# Altium footprint library TI Amplifiers and Linear Operational Amplifier High Speed.PcbLib: 83 footprints (part 2 of 6)
Each footprint in its own frame and in the unit in brackets; x right, y up, seen from the top. Pads: shape width x height; smd on the part's side, far side on the other; paste and mask are expansions set on the pad; w line width, h text height; cw(c..) or ccw(c..) is an arc to the next point about the centre after c.
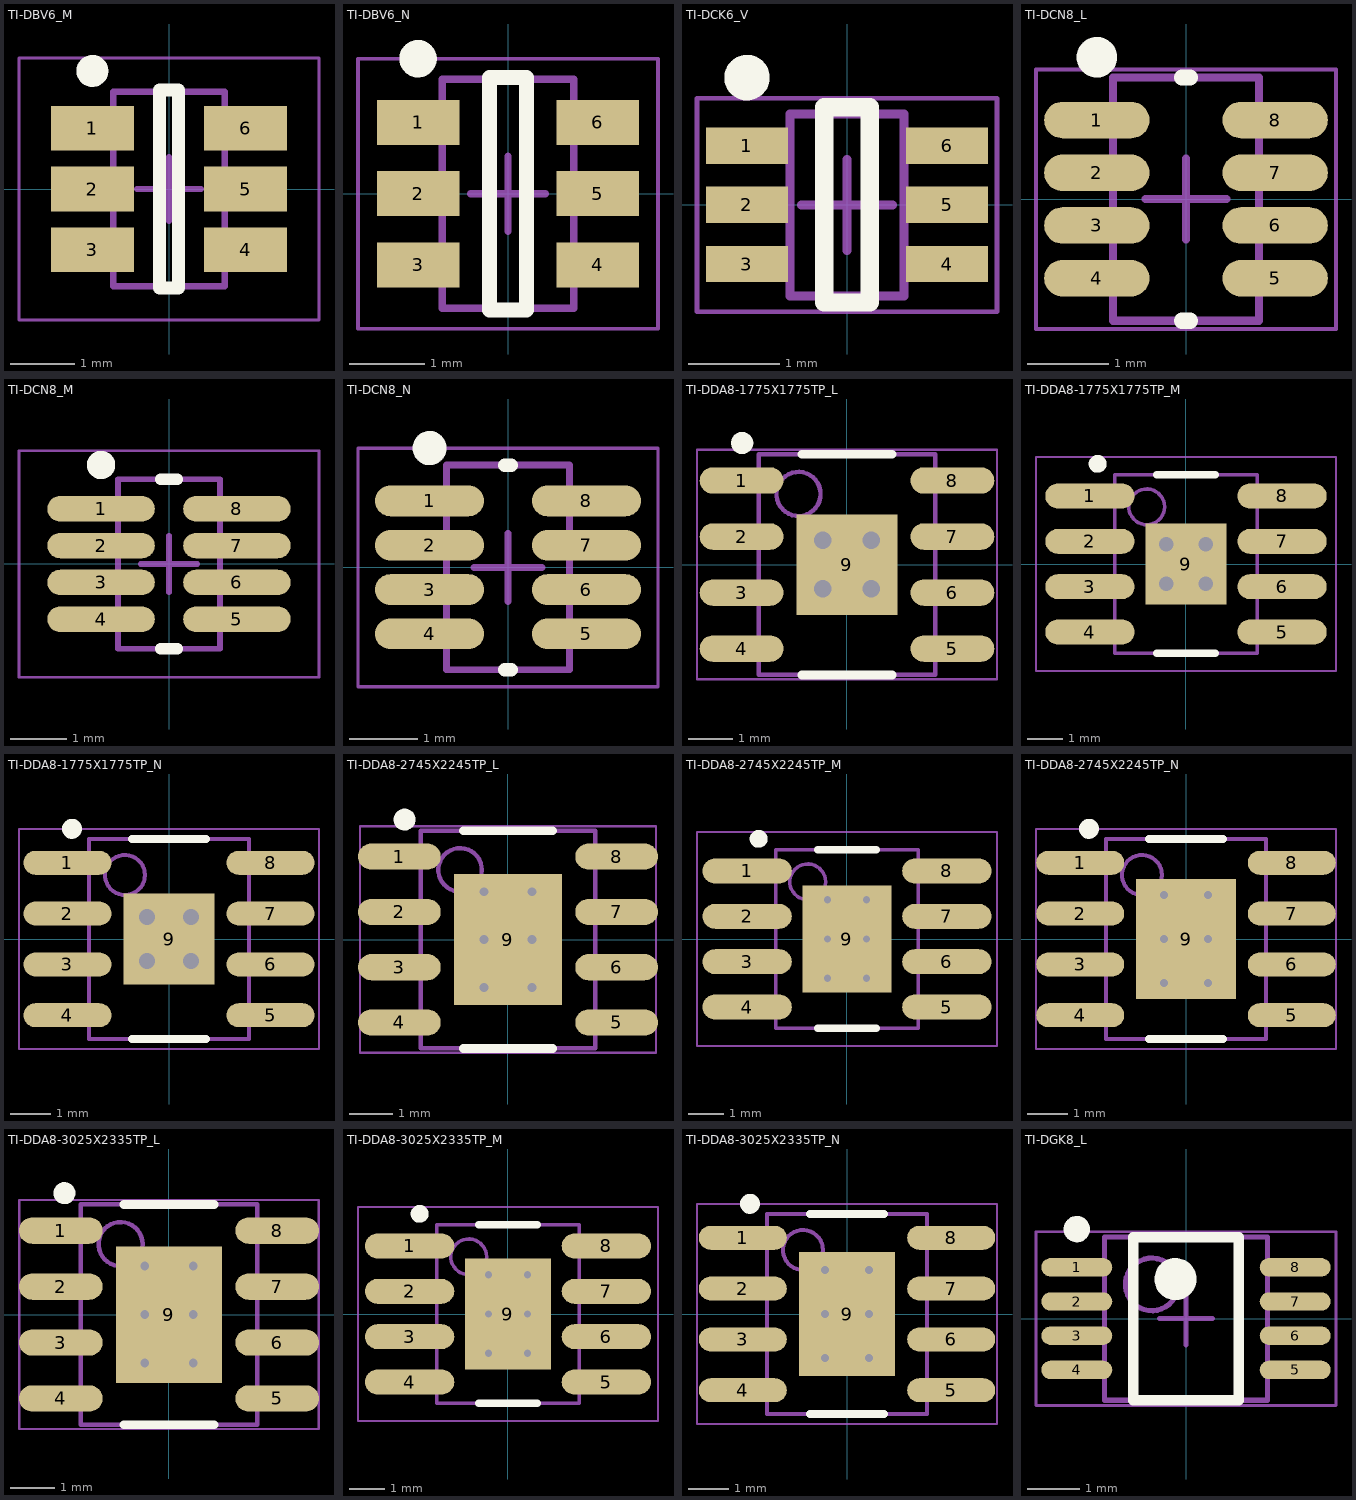
[diagram p1: the footprints below, top view; thin cyan lines are the x and y axes]

## TI-DBV6_M [mm] "SOT23, 6-Leads, Body 2.9x1.6mm, Pitch 0.95mm, IPC Low Density"
height 1.45
pads (6):
  rect 1.3x0.7 smd: 1(-1.2,0.95) 2(-1.2,0) 3(-1.2,-0.95) 4(1.2,-0.95) 5(1.2,0) 6(1.2,0.95)
Top Overlay:
  circle w0.25: c-1.2,1.85 r0.125
  lines w0.2: -0.15,-1.55 -0.15,1.55 0.15,1.55 0.15,-1.55 -0.15,-1.55
Mechanical 13:
  lines w0.1: -0.875,-1.525 0.875,-1.525 0.875,1.525 -0.875,1.525 -0.875,-1.525
Mechanical 15:
  lines w0.05: -2.35,-2.05 2.35,-2.05 2.35,2.05 -2.35,2.05 -2.35,-2.05
  lines w0.1: -0.5,0 0.5,0 ; 0,-0.5 0,0.5
3D body: height 1.45, standoff 0, extent -0.875,-1.525 0.875,1.525

## TI-DBV6_N [mm] "SOT23, 6-Leads, Body 2.9x1.6mm, Pitch 0.95mm, IPC Medium Density"
height 1.45
pads (6):
  rect 1.1x0.6 smd: 1(-1.2,0.95) 2(-1.2,0) 3(-1.2,-0.95) 4(1.2,-0.95) 5(1.2,0) 6(1.2,0.95)
Top Overlay:
  circle w0.25: c-1.2,1.8 r0.125
  lines w0.2: -0.25,-1.55 0.25,-1.55 0.25,1.55 -0.25,1.55 -0.25,-1.55
Mechanical 13:
  lines w0.1: -0.875,-1.525 -0.875,1.525 0.875,1.525 0.875,-1.525 -0.875,-1.525
Mechanical 15:
  lines w0.05: -2,-1.8 -2,1.8 2,1.8 2,-1.8 -2,-1.8
  lines w0.1: -0.5,0 0.5,0 ; 0,-0.5 0,0.5
3D body: height 1.45, standoff 0, extent -0.875,-1.525 0.875,1.525

## TI-DCK6_V [mm] "SOT23, 6-Leads, Body 2x1.25mm, Pitch 0.65mm"
height 1.1
pads (6):
  rect 0.9x0.4 smd: 1(-1.1,0.65) 2(-1.1,0) 3(-1.1,-0.65) 4(1.1,-0.65) 5(1.1,0) 6(1.1,0.65)
Top Overlay:
  circle w0.25: c-1.1,1.4 r0.125
  lines w0.2: -0.25,-1.075 -0.25,1.075 0.25,1.075 0.25,-1.075 -0.25,-1.075
Mechanical 13:
  lines w0.1: -0.625,-1 0.625,-1 0.625,1 -0.625,1 -0.625,-1
Mechanical 15:
  lines w0.05: -1.65,-1.175 1.65,-1.175 1.65,1.175 -1.65,1.175 -1.65,-1.175
  lines w0.1: -0.5,0 0.5,0 ; 0,-0.5 0,0.5
3D body: height 1.1, standoff 0, extent -0.625,-1 0.625,1

## TI-DCN8_L [mm] "SOP, 8-Leads, Body 2.9x1.6mm, Pitch 0.65mm, IPC High Density"
height 1.45
pads (8):
  oval 1.3x0.45 smd: 1(-1.1,0.975) 2(-1.1,0.325) 3(-1.1,-0.325) 4(-1.1,-0.975) 5(1.1,-0.975) 6(1.1,-0.325) 7(1.1,0.325) 8(1.1,0.975)
Top Overlay:
  circle w0.25: c-1.1,1.75 r0.125
  lines w0.2: -0.05,-1.5 0.05,-1.5 ; -0.05,1.5 0.05,1.5
Mechanical 13:
  lines w0.1: -0.9,-1.5 0.9,-1.5 0.9,1.5 -0.9,1.5 -0.9,-1.5
Mechanical 15:
  lines w0.05: -1.85,-1.6 1.85,-1.6 1.85,1.6 -1.85,1.6 -1.85,-1.6
  lines w0.1: -0.5,0 0.5,0 ; 0,-0.5 0,0.5
3D body: height 1.45, standoff 0, extent -0.9,-1.5 0.9,1.5

## TI-DCN8_M [mm] "SOP, 8-Leads, Body 2.9x1.6mm, Pitch 0.65mm, IPC Low Density"
height 1.45
pads (8):
  oval 1.9x0.45 smd: 1(-1.2,0.975) 2(-1.2,0.325) 3(-1.2,-0.325) 4(-1.2,-0.975) 5(1.2,-0.975) 6(1.2,-0.325) 7(1.2,0.325) 8(1.2,0.975)
Top Overlay:
  circle w0.25: c-1.2,1.75 r0.125
  lines w0.2: -0.15,-1.5 0.15,-1.5 ; -0.15,1.5 0.15,1.5
Mechanical 13:
  lines w0.1: -0.9,-1.5 0.9,-1.5 0.9,1.5 -0.9,1.5 -0.9,-1.5
Mechanical 15:
  lines w0.05: -2.65,-2 2.65,-2 2.65,2 -2.65,2 -2.65,-2
  lines w0.1: -0.5,0 0.5,0 ; 0,-0.5 0,0.5
3D body: height 1.45, standoff 0, extent -0.9,-1.5 0.9,1.5

## TI-DCN8_N [mm] "SOP, 8-Leads, Body 2.9x1.6mm, Pitch 0.65mm, IPC Medium Density"
height 1.45
pads (8):
  oval 1.6x0.45 smd: 1(-1.15,0.975) 2(-1.15,0.325) 3(-1.15,-0.325) 4(-1.15,-0.975) 5(1.15,-0.975) 6(1.15,-0.325) 7(1.15,0.325) 8(1.15,0.975)
Top Overlay:
  circle w0.25: c-1.15,1.75 r0.125
  lines w0.2: -0.05,-1.5 0.05,-1.5 ; -0.05,1.5 0.05,1.5
Mechanical 13:
  lines w0.1: -0.9,-1.5 0.9,-1.5 0.9,1.5 -0.9,1.5 -0.9,-1.5
Mechanical 15:
  lines w0.05: -2.2,-1.75 2.2,-1.75 2.2,1.75 -2.2,1.75 -2.2,-1.75
  lines w0.1: -0.5,0 0.5,0 ; 0,-0.5 0,0.5
3D body: height 1.45, standoff 0, extent -0.9,-1.5 0.9,1.5

## TI-DDA8-1775X1775TP_L [mm] "SOP, 8-Leads, Body 4.9x3.9mm, Pitch 1.27mm, Thermal Pad 1.775x1.775mm, IPC High Density"
height 1.7
pads (9):
  oval 1.9x0.6 smd: 1(-2.39,1.905) 2(-2.39,0.635) 3(-2.39,-0.635) 4(-2.39,-1.905) 5(2.39,-1.905) 6(2.39,-0.635) 7(2.39,0.635) 8(2.39,1.905)
  rect 2.28x2.28 smd: 9(0,0)
via 0.55,-0.55 diameter 0.8 hole 0.4
via -0.55,-0.55 diameter 0.8 hole 0.4
via 0.55,0.55 diameter 0.8 hole 0.4
via -0.55,0.55 diameter 0.8 hole 0.4
Top Overlay:
  circle w0.25: c-2.375,2.755 r0.125
  lines w0.2: -1.025,-2.5 1.025,-2.5 ; -1.025,2.5 1.025,2.5
Mechanical 13:
  circle w0.1: c-1.1,1.6 r0.5
  lines w0.1: -2,-2.5 2,-2.5 2,2.5 -2,2.5 -2,-2.5
Mechanical 15:
  lines w0.05: -3.4,-2.6 3.4,-2.6 3.4,2.6 -3.4,2.6 -3.4,-2.6
  lines w0.1: -0.5,0 0.5,0 ; 0,-0.5 0,0.5
3D body: height 1.7, standoff 0, extent -2,-2.5 2,2.5

## TI-DDA8-1775X1775TP_M [mm] "SOP, 8-Leads, Body 4.9x3.9mm, Pitch 1.27mm, Thermal Pad 1.775x1.775mm, IPC Low Density"
height 1.7
pads (9):
  oval 2.5x0.7 smd: 1(-2.69,1.905) 2(-2.69,0.635) 3(-2.69,-0.635) 4(-2.69,-1.905) 5(2.69,-1.905) 6(2.69,-0.635) 7(2.69,0.635) 8(2.69,1.905)
  rect 2.28x2.28 smd: 9(0,0)
via -0.55,0.55 diameter 0.8 hole 0.4
via 0.55,0.55 diameter 0.8 hole 0.4
via -0.55,-0.55 diameter 0.8 hole 0.4
via 0.55,-0.55 diameter 0.8 hole 0.4
Top Overlay:
  circle w0.25: c-2.475,2.805 r0.125
  lines w0.2: -0.825,-2.5 0.825,-2.5 ; -0.825,2.5 0.825,2.5
Mechanical 13:
  circle w0.1: c-1.1,1.6 r0.5
  lines w0.1: -2,-2.5 -2,2.5 2,2.5 2,-2.5 -2,-2.5
Mechanical 15:
  lines w0.05: -4.2,-3 -4.2,3 4.2,3 4.2,-3 -4.2,-3
  lines w0.1: -0.5,0 0.5,0 ; 0,-0.5 0,0.5
3D body: height 1.7, standoff 0, extent -2,-2.5 2,2.5

## TI-DDA8-1775X1775TP_N [mm] "SOP, 8-Leads, Body 4.9x3.9mm, Pitch 1.27mm, Thermal Pad 1.775x1.775mm, IPC Medium Density"
height 1.7
pads (9):
  oval 2.2x0.6 smd: 1(-2.54,1.905) 2(-2.54,0.635) 3(-2.54,-0.635) 4(-2.54,-1.905) 5(2.54,-1.905) 6(2.54,-0.635) 7(2.54,0.635) 8(2.54,1.905)
  rect 2.28x2.28 smd: 9(0,0)
via -0.55,0.55 diameter 0.8 hole 0.4
via 0.55,0.55 diameter 0.8 hole 0.4
via -0.55,-0.55 diameter 0.8 hole 0.4
via 0.55,-0.55 diameter 0.8 hole 0.4
Top Overlay:
  circle w0.25: c-2.425,2.755 r0.125
  lines w0.2: -0.925,-2.5 0.925,-2.5 ; -0.925,2.5 0.925,2.5
Mechanical 13:
  circle w0.1: c-1.1,1.6 r0.5
  lines w0.1: -2,-2.5 -2,2.5 2,2.5 2,-2.5 -2,-2.5
Mechanical 15:
  lines w0.05: -3.75,-2.75 -3.75,2.75 3.75,2.75 3.75,-2.75 -3.75,-2.75
  lines w0.1: -0.5,0 0.5,0 ; 0,-0.5 0,0.5
3D body: height 1.7, standoff 0, extent -2,-2.5 2,2.5

## TI-DDA8-2745X2245TP_L [mm] "SOP, 8-Leads, Body 4.9x3.9mm, Pitch 1.27mm, Thermal Pad 2.745x2.245mm, IPC High Density"
height 1.7
pads (9):
  oval 1.9x0.6 smd: 1(-2.495,1.905) 2(-2.495,0.635) 3(-2.495,-0.635) 4(-2.495,-1.905) 5(2.495,-1.905) 6(2.495,-0.635) 7(2.495,0.635) 8(2.495,1.905)
  rect 2.49x3 smd: 9(0,0)
via -0.55,1.1 diameter 0.5 hole 0.2
via 0.55,1.1 diameter 0.5 hole 0.2
via -0.55,0 diameter 0.5 hole 0.2
via 0.55,0 diameter 0.5 hole 0.2
via -0.55,-1.1 diameter 0.5 hole 0.2
via 0.55,-1.1 diameter 0.5 hole 0.2
Top Overlay:
  circle w0.25: c-2.375,2.755 r0.125
  lines w0.2: -1.025,-2.5 1.025,-2.5 ; -1.025,2.5 1.025,2.5
Mechanical 13:
  circle w0.1: c-1.1,1.6 r0.5
  lines w0.1: -2,-2.5 -2,2.5 2,2.5 2,-2.5 -2,-2.5
Mechanical 15:
  lines w0.05: -3.4,-2.6 -3.4,2.6 3.4,2.6 3.4,-2.6 -3.4,-2.6
  lines w0.1: -0.5,0 0.5,0 ; 0,-0.5 0,0.5
3D body: height 1.7, standoff 0, extent -2,-2.5 2,2.5

## TI-DDA8-2745X2245TP_M [mm] "SOP, 8-Leads, Body 4.9x3.9mm, Pitch 1.27mm, Thermal Pad 2.745x2.245mm, IPC Low Density"
height 1.7
pads (9):
  oval 2.5x0.7 smd: 1(-2.795,1.905) 2(-2.795,0.635) 3(-2.795,-0.635) 4(-2.795,-1.905) 5(2.795,-1.905) 6(2.795,-0.635) 7(2.795,0.635) 8(2.795,1.905)
  rect 2.49x3 smd: 9(0,0)
via 0.55,-1.1 diameter 0.5 hole 0.2
via -0.55,-1.1 diameter 0.5 hole 0.2
via 0.55,0 diameter 0.5 hole 0.2
via -0.55,0 diameter 0.5 hole 0.2
via 0.55,1.1 diameter 0.5 hole 0.2
via -0.55,1.1 diameter 0.5 hole 0.2
Top Overlay:
  circle w0.25: c-2.475,2.805 r0.125
  lines w0.2: -0.825,-2.5 0.825,-2.5 ; -0.825,2.5 0.825,2.5
Mechanical 13:
  circle w0.1: c-1.1,1.6 r0.5
  lines w0.1: -2,-2.5 2,-2.5 2,2.5 -2,2.5 -2,-2.5
Mechanical 15:
  lines w0.05: -4.2,-3 4.2,-3 4.2,3 -4.2,3 -4.2,-3
  lines w0.1: -0.5,0 0.5,0 ; 0,-0.5 0,0.5
3D body: height 1.7, standoff 0, extent -2,-2.5 2,2.5

## TI-DDA8-2745X2245TP_N [mm] "SOP, 8-Leads, Body 4.9x3.9mm, Pitch 1.27mm, Thermal Pad 2.745x2.245mm, IPC Medium Density"
height 1.7
pads (9):
  oval 2.2x0.6 smd: 1(-2.645,1.905) 2(-2.645,0.635) 3(-2.645,-0.635) 4(-2.645,-1.905) 5(2.645,-1.905) 6(2.645,-0.635) 7(2.645,0.635) 8(2.645,1.905)
  rect 2.49x3 smd: 9(0,0)
via -0.55,1.1 diameter 0.5 hole 0.2
via 0.55,1.1 diameter 0.5 hole 0.2
via -0.55,0 diameter 0.5 hole 0.2
via 0.55,0 diameter 0.5 hole 0.2
via -0.55,-1.1 diameter 0.5 hole 0.2
via 0.55,-1.1 diameter 0.5 hole 0.2
Top Overlay:
  circle w0.25: c-2.425,2.755 r0.125
  lines w0.2: -0.925,-2.5 0.925,-2.5 ; -0.925,2.5 0.925,2.5
Mechanical 13:
  circle w0.1: c-1.1,1.6 r0.5
  lines w0.1: -2,-2.5 -2,2.5 2,2.5 2,-2.5 -2,-2.5
Mechanical 15:
  lines w0.05: -3.75,-2.75 -3.75,2.75 3.75,2.75 3.75,-2.75 -3.75,-2.75
  lines w0.1: -0.5,0 0.5,0 ; 0,-0.5 0,0.5
3D body: height 1.7, standoff 0, extent -2,-2.5 2,2.5

## TI-DDA8-3025X2335TP_L [mm] "SOP, 8-Leads, Body 4.9x3.9mm, Pitch 1.27mm, Thermal Pad 3.025x2.335mm, IPC High Density"
height 1.7
pads (9):
  oval 1.9x0.6 smd: 1(-2.455,1.905) 2(-2.455,0.635) 3(-2.455,-0.635) 4(-2.455,-1.905) 5(2.455,-1.905) 6(2.455,-0.635) 7(2.455,0.635) 8(2.455,1.905)
  rect 2.41x3.1 smd: 9(0,0)
via 0.55,-1.1 diameter 0.5 hole 0.2
via -0.55,-1.1 diameter 0.5 hole 0.2
via 0.55,0 diameter 0.5 hole 0.2
via -0.55,0 diameter 0.5 hole 0.2
via 0.55,1.1 diameter 0.5 hole 0.2
via -0.55,1.1 diameter 0.5 hole 0.2
Top Overlay:
  circle w0.25: c-2.375,2.755 r0.125
  lines w0.2: -1.025,-2.5 1.025,-2.5 ; -1.025,2.5 1.025,2.5
Mechanical 13:
  circle w0.1: c-1.1,1.6 r0.5
  lines w0.1: -2,-2.5 2,-2.5 2,2.5 -2,2.5 -2,-2.5
Mechanical 15:
  lines w0.05: -3.4,-2.6 3.4,-2.6 3.4,2.6 -3.4,2.6 -3.4,-2.6
  lines w0.1: -0.5,0 0.5,0 ; 0,-0.5 0,0.5
3D body: height 1.7, standoff 0, extent -2,-2.5 2,2.5

## TI-DDA8-3025X2335TP_M [mm] "SOP, 8-Leads, Body 4.9x3.9mm, Pitch 1.27mm, Thermal Pad 3.025x2.335mm, IPC Low Density"
height 1.7
pads (9):
  oval 2.5x0.7 smd: 1(-2.755,1.905) 2(-2.755,0.635) 3(-2.755,-0.635) 4(-2.755,-1.905) 5(2.755,-1.905) 6(2.755,-0.635) 7(2.755,0.635) 8(2.755,1.905)
  rect 2.41x3.1 smd: 9(0,0)
via 0.55,-1.1 diameter 0.5 hole 0.2
via -0.55,-1.1 diameter 0.5 hole 0.2
via 0.55,0 diameter 0.5 hole 0.2
via -0.55,0 diameter 0.5 hole 0.2
via 0.55,1.1 diameter 0.5 hole 0.2
via -0.55,1.1 diameter 0.5 hole 0.2
Top Overlay:
  circle w0.25: c-2.475,2.805 r0.125
  lines w0.2: -0.825,-2.5 0.825,-2.5 ; -0.825,2.5 0.825,2.5
Mechanical 13:
  circle w0.1: c-1.1,1.6 r0.5
  lines w0.1: -2,-2.5 2,-2.5 2,2.5 -2,2.5 -2,-2.5
Mechanical 15:
  lines w0.05: -4.2,-3 4.2,-3 4.2,3 -4.2,3 -4.2,-3
  lines w0.1: -0.5,0 0.5,0 ; 0,-0.5 0,0.5
3D body: height 1.7, standoff 0, extent -2,-2.5 2,2.5

## TI-DDA8-3025X2335TP_N [mm] "SOP, 8-Leads, Body 4.9x3.9mm, Pitch 1.27mm, Thermal Pad 3.025x2.335mm, IPC Medium Density"
height 1.7
pads (9):
  oval 2.2x0.6 smd: 1(-2.605,1.905) 2(-2.605,0.635) 3(-2.605,-0.635) 4(-2.605,-1.905) 5(2.605,-1.905) 6(2.605,-0.635) 7(2.605,0.635) 8(2.605,1.905)
  rect 2.41x3.1 smd: 9(0,0)
via 0.55,-1.1 diameter 0.5 hole 0.2
via -0.55,-1.1 diameter 0.5 hole 0.2
via 0.55,0 diameter 0.5 hole 0.2
via -0.55,0 diameter 0.5 hole 0.2
via 0.55,1.1 diameter 0.5 hole 0.2
via -0.55,1.1 diameter 0.5 hole 0.2
Top Overlay:
  circle w0.25: c-2.425,2.755 r0.125
  lines w0.2: -0.925,-2.5 0.925,-2.5 ; -0.925,2.5 0.925,2.5
Mechanical 13:
  circle w0.1: c-1.1,1.6 r0.5
  lines w0.1: -2,-2.5 2,-2.5 2,2.5 -2,2.5 -2,-2.5
Mechanical 15:
  lines w0.05: -3.75,-2.75 3.75,-2.75 3.75,2.75 -3.75,2.75 -3.75,-2.75
  lines w0.1: -0.5,0 0.5,0 ; 0,-0.5 0,0.5
3D body: height 1.7, standoff 0, extent -2,-2.5 2,2.5

## TI-DGK8_L [mm] "SOP, 8-Leads, Body 3x3mm, Pitch 0.65mm, IPC High Density"
height 1.1
pads (8):
  oval 1.35x0.35 smd: 1(-2.075,0.975) 2(-2.075,0.325) 3(-2.075,-0.325) 4(-2.075,-0.975) 5(2.075,-0.975) 6(2.075,-0.325) 7(2.075,0.325) 8(2.075,0.975)
Top Overlay:
  circle w0.25: c-2.075,1.7 r0.125
  circle w0.4: c-0.2,0.75 r0.2
  lines w0.2: -1,-1.55 -1,1.55 1,1.55 1,-1.55 -1,-1.55
Mechanical 13:
  circle w0.1: c-0.65,0.65 r0.5
  lines w0.1: -1.55,-1.55 -1.55,1.55 1.55,1.55 1.55,-1.55 -1.55,-1.55
Mechanical 15:
  lines w0.05: -2.85,-1.65 -2.85,1.65 2.85,1.65 2.85,-1.65 -2.85,-1.65
  lines w0.1: -0.5,0 0.5,0 ; 0,-0.5 0,0.5
3D body: height 1.1, standoff 0.05, extent -1.55,-1.55 1.55,1.55